# EAGLE library part M95M01-RMN6P (library M95M01-RDW6TP)
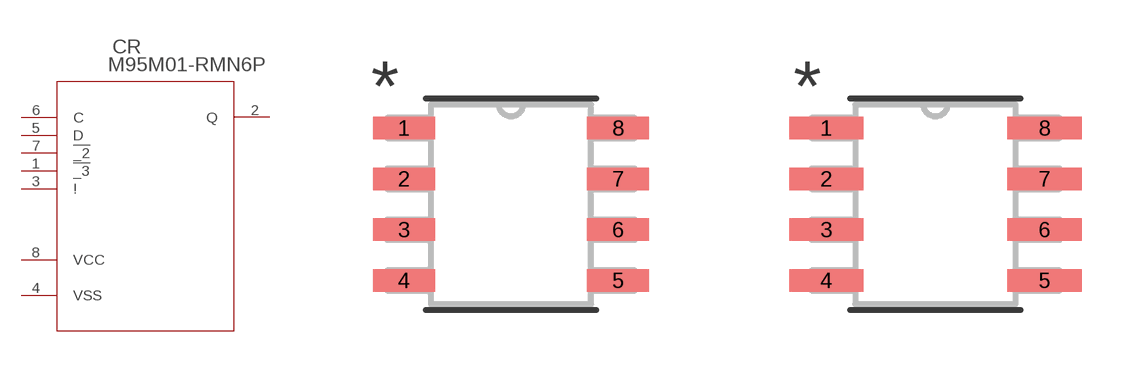
[diagram p0: symbol with the pads of SO-8_STM; footprints SO-8_STM, SO-8_STM-M]

Designator prefix CR

## M95M01-RMN6P (BUILT_BY: EMA_UL_Team; MANUFACTURER_PART_NUMBER: M95M01-RMN6P; SOURCELIBRARY: StMicro_2011-06-07; VENDOR: STMicroelectronics)  [SO-8_STM]
1  !_3  in
2  Q  out
3  !  in
4  VSS  pwr
5  D  in
6  C  in
7  !_2  in
8  VCC  pwr

## M95M01-RMN6PSO-8_STM-M (BUILT_BY: EMA_UL_Team; MANUFACTURER_PART_NUMBER: M95M01-RMN6P; SOURCELIBRARY: StMicro_2011-06-07; VENDOR: STMicroelectronics)  [SO-8_STM-M]
Pads as for SO-8_STM

## M95M01-RMN6PSO-8_STM-L (BUILT_BY: EMA_UL_Team; MANUFACTURER_PART_NUMBER: M95M01-RMN6P; SOURCELIBRARY: StMicro_2011-06-07; VENDOR: STMicroelectronics)  [SO-8_STM-L]
Pads as for SO-8_STM

## Footprint SO-8_STM (pad centres in mm)
smd 1.549 x 0.559: 1 -2.68,1.905; 2 -2.68,0.635; 3 -2.68,-0.635; 4 -2.68,-1.905; 5 2.68,-1.905; 6 2.68,-0.635; 7 2.68,0.635; 8 2.68,1.905

## Footprint SO-8_STM-M (pad centres in mm)
smd 1.854 x 0.559: 1 -2.731,1.905; 2 -2.731,0.635; 3 -2.731,-0.635; 4 -2.731,-1.905; 5 2.731,-1.905; 6 2.731,-0.635; 7 2.731,0.635; 8 2.731,1.905

## Footprint SO-8_STM-L (pad centres in mm)
smd 1.245 x 0.508: 1 -2.629,1.905; 2 -2.629,0.635; 3 -2.629,-0.635; 4 -2.629,-1.905; 5 2.629,-1.905; 6 2.629,-0.635; 7 2.629,0.635; 8 2.629,1.905